# EAGLE library part ESD-SMF05C (library components)
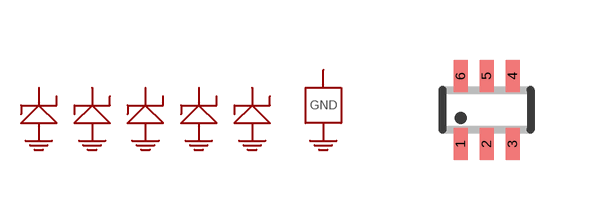
[diagram p26: symbol with the pads of SC70-6L; footprint SC70-6L]

Designator prefix U; gates G$1=ESD-DIODE G$2=ESD-DIODE G$3=ESD-DIODE G$4=ESD-DIODE G$5=ESD-DIODE G$6=ESD-GROUND

## ESD-SMF05C (DESCRIPTION: Fast ESD Diode (Quadpack); DIGIKEY-PN: SMF05CCT-ND)  [SC70-6L]
1  G$1:P$1
2  G$6:GND  pwr
3  G$2:P$1
4  G$3:P$1
5  G$4:P$1
6  G$5:P$1

## Footprint SC70-6L (pad centres in mm)
SC-70 Package
smd 0.35 x 0.8: 1 -0.65,-0.85; 2 0,-0.85; 3 0.65,-0.85; 4 0.65,0.85; 5 0,0.85; 6 -0.65,0.85